# EAGLE library part 6PIN (library JST)
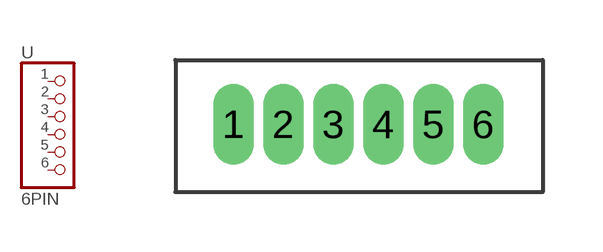
[diagram p0: symbol with the pads of 6PIN-JST-1.27; footprint 6PIN-JST-1.27]

Designator prefix -

## 6PIN  [6PIN-JST-1.27]
1  1  pas
2  2  pas
3  3  pas
4  4  pas
5  5  pas
6  6  pas

## Footprint 6PIN-JST-1.27 (pad centres in mm)
drill 0.5 pad 0.6 long: 1 -1.875,0; 2 -0.625,0; 3 0.625,0; 4 1.875,0; 5 3.125,0; 6 4.375,0